# Altium schematic symbol library BIPOLAR-NPN-BCE.SchLib: 1 symbol
Pins are listed as number, name and electrical type; pins without a type are passive.

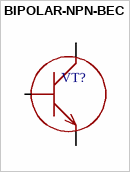
[diagram p0: symbol BIPOLAR-NPN-BEC]

## BIPOLAR-NPN-BEC
designator VT?
footprint TO-92
footprint SOT23-3
footprint TO-220-3
footprint TO-252
footprint TO-247-3
footprint SOT-223-3
footprint TO-220(bend2)
pins: 1 B, 2 C, 3 E